# Altium schematic symbol library KLS5-1096.SchLib: 1 symbol
Pins are listed as number, name and electrical type; pins without a type are passive.

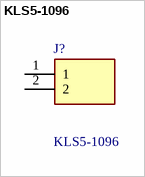
[diagram p0: symbol KLS5-1096]

## KLS5-1096
designator J?
PCB Fuse Holder For Fuse 5.220mm Pitch 22.4mm KLS5-1096 	All Products in Fuse holders & Fuse clips; Manufacturer_Name: KLS Electronic; Geometry.Height: 11.1mm; Manufacturer_Part_Number: KLS5-1096; Mouser Part Number: *; Mouser Price/Stock: *; Arrow Part Number: *; Arrow Price/Stock: *; Datasheet Link: http://www.klsele.com/admin/product_upload/20220316105607L-KLS5-1096.pdf
footprint KLS51096
pins: 1, 2